# EAGLE library part SKU_80711 (library Bluetooth_serial)
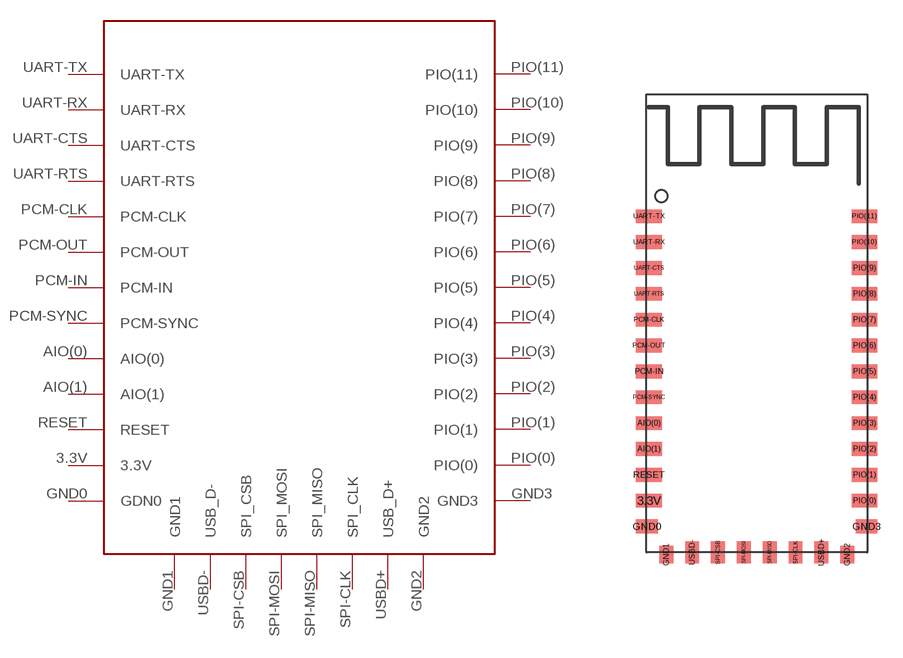
[diagram p0: symbol with the pads of SKU_80711; footprint SKU_80711]

Designator prefix -

## SKU_80711  [SKU_80711]
3.3V  3.3V
AIO(0)  AIO(0)
AIO(1)  AIO(1)
GND0  GDN0
GND1  GND1
GND2  GND2
GND3  GND3
PCM-CLK  PCM-CLK
PCM-IN  PCM-IN
PCM-OUT  PCM-OUT
PCM-SYNC  PCM-SYNC
PIO(0)  PIO(0)
PIO(1)  PIO(1)
PIO(2)  PIO(2)
PIO(3)  PIO(3)
PIO(4)  PIO(4)
PIO(5)  PIO(5)
PIO(6)  PIO(6)
PIO(7)  PIO(7)
PIO(8)  PIO(8)
PIO(9)  PIO(9)
PIO(10)  PIO(10)
PIO(11)  PIO(11)
RESET  RESET
SPI-CLK  SPI_CLK
SPI-CSB  SPI_CSB
SPI-MISO  SPI_MISO
SPI-MOSI  SPI_MOSI
UART-CTS  UART-CTS
UART-RTS  UART-RTS
UART-RX  UART-RX
UART-TX  UART-TX
USBD+  USB_D+
USBD-  USB_D-

## Footprint SKU_80711 (pad centres in mm)
smd 1.524 x 0.813: 3.3V -6.35,3.048; AIO(0) -6.35,7.62; AIO(1) -6.35,6.096; PCM-CLK -6.35,13.716; PCM-IN -6.35,10.668; PCM-OUT -6.35,12.192; PCM-SYNC -6.35,9.144; PIO(0) 6.35,3.048; PIO(1) 6.35,4.572; PIO(2) 6.35,6.096; PIO(3) 6.35,7.62; PIO(4) 6.35,9.144; PIO(5) 6.35,10.668; PIO(6) 6.35,12.192; PIO(7) 6.35,13.716; PIO(8) 6.35,15.24; PIO(9) 6.35,16.764; PIO(10) 6.35,18.288; PIO(11) 6.35,19.812; RESET -6.35,4.572; UART-CTS -6.35,16.764; UART-RTS -6.35,15.24; UART-RX -6.35,18.288; UART-TX -6.35,19.812
smd 1.27 x 0.813: GND0 -6.477,1.524; GND3 6.477,1.524
smd 0.813 x 1.016: GND1 -5.334,-0.127; GND2 5.334,-0.127
smd 0.813 x 1.27: SPI-CLK 2.286,0; SPI-CSB -2.286,0; SPI-MISO 0.762,0; SPI-MOSI -0.762,0; USBD+ 3.81,0; USBD- -3.81,0